# EAGLE library part IO (library supply pins)
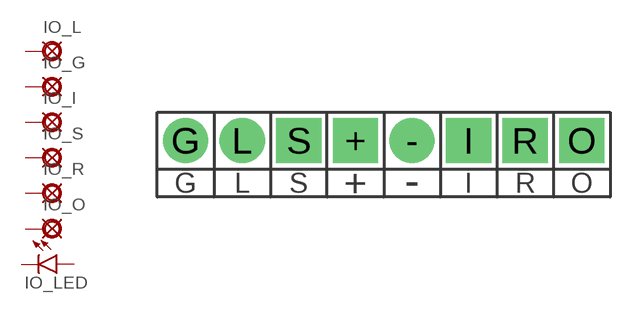
[diagram p0: symbol with the pads of IO; footprint IO]

Designator prefix IO_; gates G=PAD I=PAD L=PAD LED=LED O=PAD R=PAD S=PAD

## IO  [IO]
+  LED:+  pas
-  LED:-  pas
G  G:PAD  pas
I  I:PAD  pas
L  L:PAD  pas
O  O:PAD  pas
R  R:PAD  pas
S  S:PAD  pas

## Footprint IO (pad centres in mm)
drill 1.2 pad 2.032 square: + -1.27,0; I 3.81,0; O 8.89,0; R 6.35,0; S -3.81,0
drill 1.2 pad 2.032: - 1.27,0; G -8.89,0; L -6.35,0